# EAGLE library part 691414720006 (library Wurth_Elektronik_Electromechanic_Terminal_Blocks_Connectors_rev16b)
WR-TBL Terminal block - serie 4147 5,00mm - Spring clamp/Screwless - 45° entry - 06p Code:Con_TBL_Screwless_5.00_6914147200xx_691414720006 <http://katalog.we-online.de/media/images/eican/Con_TBL_Screwless_5.00_6914147200xx_pf2.jpg> Details see: http://katalog.we-online.de/en/em/691_414_720_0xxB/691_414_720_006B?m Created 2014-12-22, aslant tao 2014 (C) Würth Elektronik
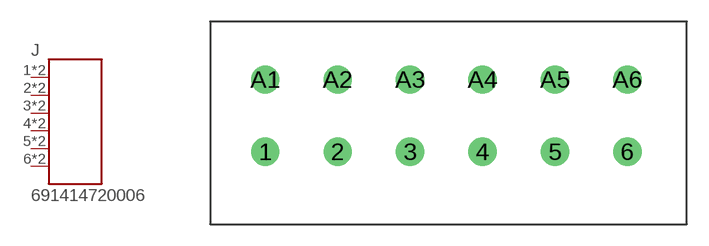
[diagram p232: symbol with the pads of 691414720006; footprint 691414720006]

Designator prefix J

## 691414720006  [691414720006]
1  1  pas
2  2  pas
3  3  pas
4  4  pas
5  5  pas
6  6  pas
A1  1  pas
A2  2  pas
A3  3  pas
A4  4  pas
A5  5  pas
A6  6  pas

## Footprint 691414720006 (pad centres in mm)
WR-TBL Serie 4147 - 5.0mm Screwless 45° Entry - 3 mm2 Wires, 6 Pins
drill 1.3: 1 -12.62,-2.54; 2 -7.62,-2.54; 3 -2.62,-2.54; 4 2.38,-2.54; 5 7.38,-2.54; 6 12.38,-2.54; A1 -12.62,2.46; A2 -7.62,2.46; A3 -2.62,2.46; A4 2.38,2.46; A5 7.38,2.46; A6 12.38,2.46